# Altium footprint library 691311500102.PcbLib: 1 footprints
Each footprint in its own frame and in the unit in brackets; x right, y up, seen from the top. Pads: shape width x height; smd on the part's side, far side on the other; paste and mask are expansions set on the pad; w line width, h text height; cw(c..) or ccw(c..) is an arc to the next point about the centre after c.
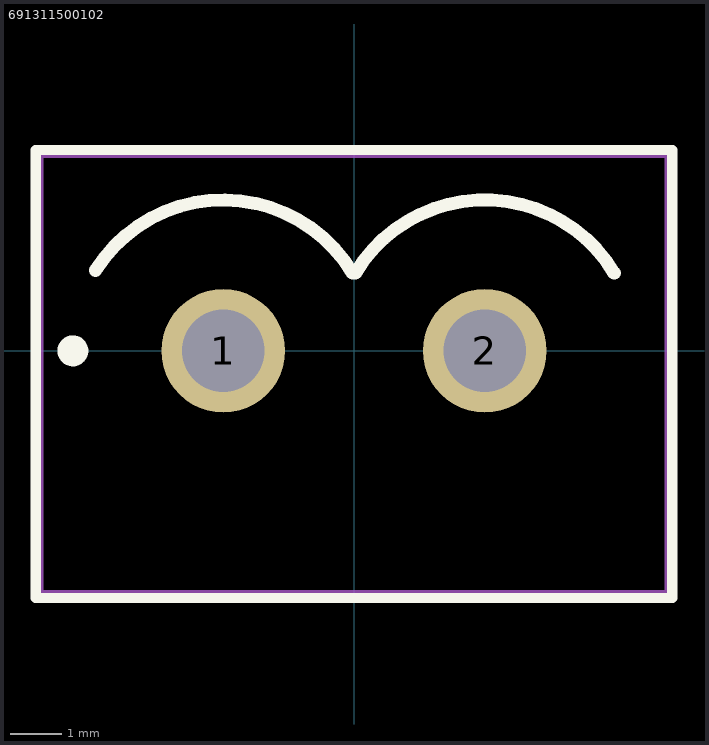
[diagram p0: the footprint, top view; thin cyan lines are the x and y axes]

## 691311500102 [mm]
pads (2):
  round 2.4 hole 1.6: 1(-2.54,0) 2(2.54,0)
Top Overlay:
  circle w0.4: c-5.461,0 r0.1
  lines w0.2: -6.18,-4.8 -6.18,3.9 6.18,3.9 6.18,-4.8 -6.18,-4.8
  lines w0.254: -5.019,1.566 cw(c-2.54,0) -0.026,1.509 ; 0.026,1.509 cw(c2.54,0) 5.054,1.509
Top 3D Body:
  lines w0.1: -6.08,-4.7 6.08,-4.7 6.08,3.8 -6.08,3.8 -6.08,-4.7
3D body "691311500102.stp": height 12, standoff -4, extent -6.08,-4.65 6.08,3.85